# EAGLE library part USB_HRS_ZX62-B-5PA(11)MICRO.B (library Rebel)
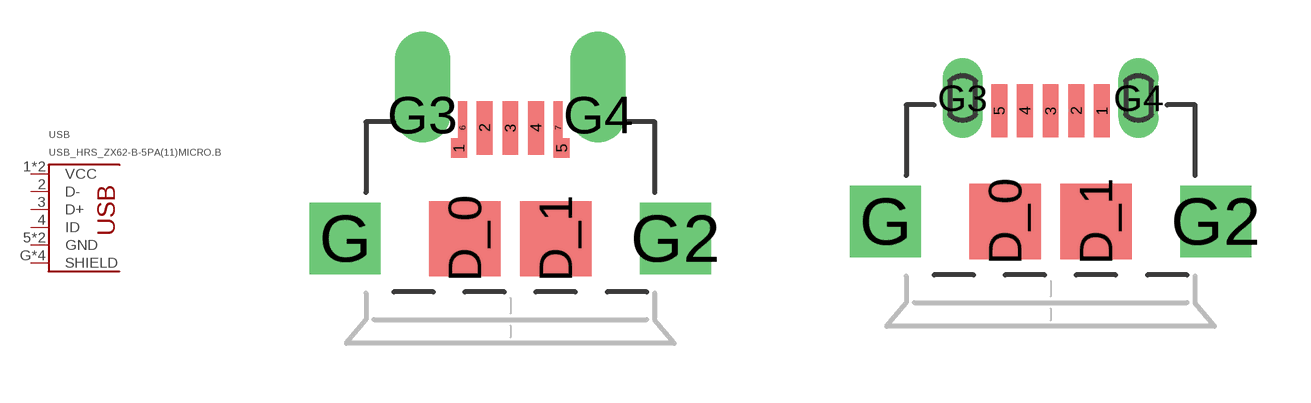
[diagram p4: symbol with the pads of HRS_ZX62D-AB-5P8_USB; footprints HRS_ZX62D-AB-5P8_USB, HRS_ZX62RD-AB-5P8]

Designator prefix USB

## USB_HRS_ZX62-B-5PA(11)MICRO.B-  [HRS_ZX62D-AB-5P8_USB]
1  VCC
2  D-
3  D+
4  ID
5  GND
6  VCC
7  GND
G  SHIELD
G2  SHIELD
G3  SHIELD
G4  SHIELD

## USB_HRS_ZX62-B-5PA(11)MICRO.B  [HRS_ZX62RD-AB-5P8]
1  VCC
2  D-
3  D+
4  ID
5  GND
G  SHIELD
G2  SHIELD
G3  SHIELD
G4  SHIELD

## Footprint HRS_ZX62D-AB-5P8_USB (pad centres in mm)
ZX62D-AB-5P8 - HRS (HIROSE) CONNECTOR, MICRO USB, RECEPTACLE
smd 0.4 x 0.5: 1 -1.3,2.4; 5 1.3,2.4
smd 0.4 x 1.35: 2 -0.65,2.91; 3 0,2.91; 4 0.65,2.91
smd 0.22 x 1.35: 6 -1.21,2.91; 7 1.21,2.91
smd 1.8 x 1.9: D_0 -1.15,0.11; D_1 1.15,0.11
drill 1 pad 1.8 square: G -4.175,0.11; G2 4.175,0.11
drill 0.9 pad 1 offset: G3 -2.225,3.235; G4 2.225,3.235

## Footprint HRS_ZX62RD-AB-5P8 (pad centres in mm)
smd 0.4 x 1.35: 1 1.3,2.275; 2 0.65,2.275; 3 0,2.275; 4 -0.65,2.275; 5 -1.3,2.275
smd 1.8 x 1.9: D_0 -1.15,-0.525; D_1 1.15,-0.525
drill 1 pad 1.8 square: G -4.175,-0.525; G2 4.175,-0.525
drill 0.5 long: G3 -2.225,2.6; G4 2.225,2.6